# Altium footprint library SPU03.PcbLib: 1 footprints
Each footprint in its own frame and in the unit in brackets; x right, y up, seen from the top. Pads: shape width x height; smd on the part's side, far side on the other; paste and mask are expansions set on the pad; w line width, h text height; cw(c..) or ccw(c..) is an arc to the next point about the centre after c.
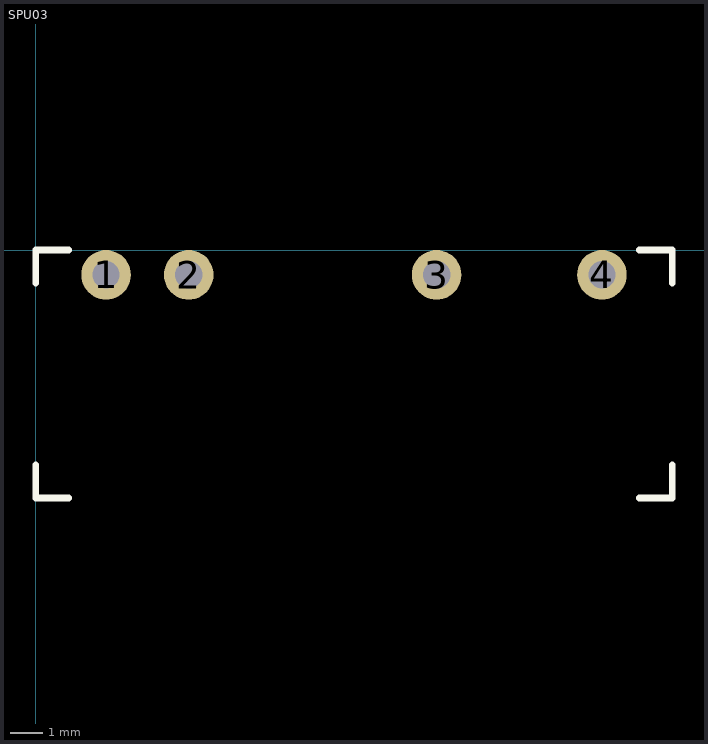
[diagram p0: the footprint, top view; thin cyan lines are the x and y axes]

## SPU03 [mil] "MEAN WELL SPU03 Series"
pads (4):
  round 60 hole 33: 1(85,-30) 2(185,-30) 3(485,-30) 4(685,-30)
Top Overlay:
  lines w8: 0,-260 0,-300 40,-300 ; 0,-40 0,0 40,0 ; 730,-300 770,-300 770,-260 ; 730,0 770,0 770,-40
3D body: height 400, standoff 0, extent 0,-300 770,0